# EAGLE library part HD-F101 (library 7SEG)
LED DISPLAY 1-character 7 segment, decimal point right
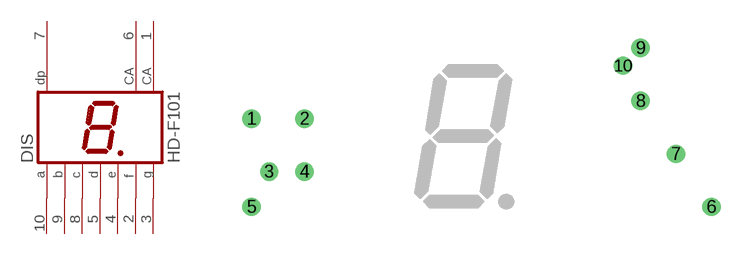
[diagram p0: symbol with the pads of HDSP-E; footprint HDSP-E]

Designator prefix DIS

## HD-F101 (OC_FARNELL: unknown; OC_NEWARK: unknown)  [HDSP-E]
1  CA  pas
2  F  pas
3  G  pas
4  E  pas
5  D  pas
6  CA  pas
7  DP  pas
8  C  pas
9  B  pas
10  A  pas

## Footprint HDSP-E (pad centres in mm)
LED DISPLAY 10-mm 1 character 7 segment, decimal point right
drill 0.813: 1 -15.24,1.27; 2 -11.43,1.27; 3 -13.97,-2.54; 4 -11.43,-2.54; 5 -15.24,-5.08; 6 17.78,-5.08; 7 15.24,-1.27; 8 12.7,2.54; 9 12.7,6.35; 10 11.43,5.08